# EAGLE library part ARDUINO_MEGA_SHIELD (library Arduino_Shields)
Arduino Mega Shield.
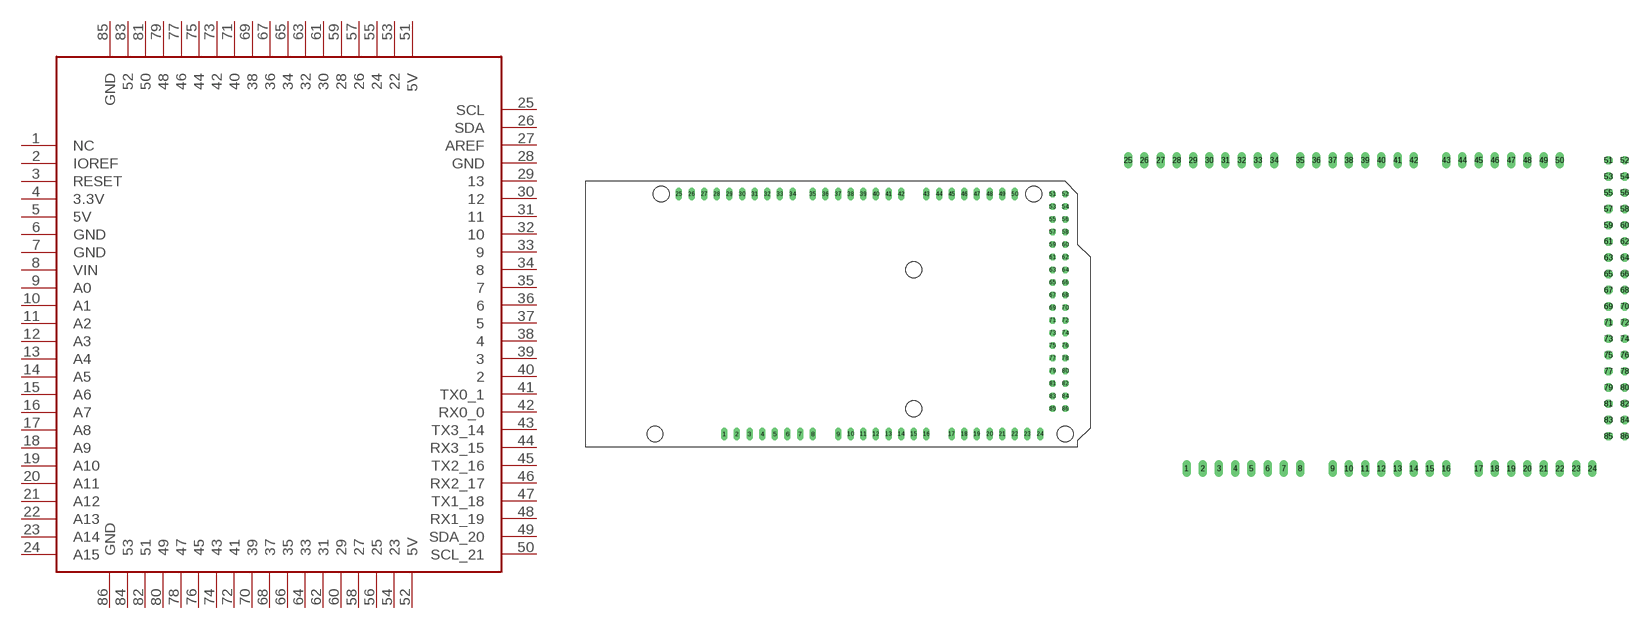
[diagram p2: symbol with the pads of MEGA_FULL; footprints MEGA_FULL, MEGA_PADS_ONLY]

Designator prefix -

## ARDUINO_MEGA_SHIELD_FULL  [MEGA_FULL]
1  NC  nc
2  IOREF
3  RESET
4  3.3V
5  5V
6  GND
7  GND
8  VIN
9  A0
10  A1
11  A2
12  A3
13  A4
14  A5
15  A6
16  A7
17  A8
18  A9
19  A10
20  A11
21  A12
22  A13
23  A14
24  A15
25  SCL
26  SDA
27  AREF
28  GND
29  13
30  12
31  11
32  10
33  9
34  8
35  7
36  6
37  5
38  4
39  3
40  2
41  TX0_1
42  RX0_0
43  TX3_14
44  RX3_15
45  TX2_16
46  RX2_17
47  TX1_18
48  RX1_19
49  SDA_20
50  SCL_21
51  5V
52  5V
53  22
54  23
55  24
56  25
57  26
58  27
59  28
60  29
61  30
62  31
63  32
64  33
65  34
66  35
67  36
68  37
69  38
70  39
71  40
72  41
73  42
74  43
75  44
76  45
77  46
78  47
79  48
80  49
81  50
82  51
83  52
84  53
85  GND
86  GND

## ARDUINO_MEGA_SHIELD_PADS_ONLY  [MEGA_PADS_ONLY]
Pads as for MEGA_FULL

## ARDUINO_MEGA_SHIELD_PADS_HOLES  [MEGA_PADS_HOLES]
Pads as for MEGA_FULL

## Footprint MEGA_FULL (pad centres in mm)
drill 0.8 long: 1 27.94,2.54; 2 30.48,2.54; 3 33.02,2.54; 4 35.56,2.54; 5 38.1,2.54; 6 40.64,2.54; 7 43.18,2.54; 8 45.72,2.54; 9 50.8,2.54; 10 53.34,2.54; 11 55.88,2.54; 12 58.42,2.54; 13 60.96,2.54; 14 63.5,2.54; 15 66.04,2.54; 16 68.58,2.54; 17 73.66,2.54; 18 76.2,2.54; 19 78.74,2.54; 20 81.28,2.54; 21 83.82,2.54; 22 86.36,2.54; 23 88.9,2.54; 24 91.44,2.54; 25 18.796,50.8; 26 21.336,50.8; 27 23.876,50.8; 28 26.416,50.8; 29 28.956,50.8; 30 31.496,50.8; 31 34.036,50.8; 32 36.576,50.8; 33 39.116,50.8; 34 41.656,50.8; 35 45.72,50.8; 36 48.26,50.8; 37 50.8,50.8; 38 53.34,50.8; 39 55.88,50.8; 40 58.42,50.8; 41 60.96,50.8; 42 63.5,50.8; 43 68.58,50.8; 44 71.12,50.8; 45 73.66,50.8; 46 76.2,50.8; 47 78.74,50.8; 48 81.28,50.8; 49 83.82,50.8; 50 86.36,50.8
drill 0.8 octagon: 51 93.98,50.8; 52 96.52,50.8; 53 93.98,48.26; 54 96.52,48.26; 55 93.98,45.72; 56 96.52,45.72; 57 93.98,43.18; 58 96.52,43.18; 59 93.98,40.64; 60 96.52,40.64; 61 93.98,38.1; 62 96.52,38.1; 63 93.98,35.56; 64 96.52,35.56; 65 93.98,33.02; 66 96.52,33.02; 67 93.98,30.48; 68 96.52,30.48; 69 93.98,27.94; 70 96.52,27.94; 71 93.98,25.4; 72 96.52,25.4; 73 93.98,22.86; 74 96.52,22.86; 75 93.98,20.32; 76 96.52,20.32; 77 93.98,17.78; 78 96.52,17.78; 79 93.98,15.24; 80 96.52,15.24; 81 93.98,12.7; 82 96.52,12.7; 83 93.98,10.16; 84 96.52,10.16; 85 93.98,7.62; 86 96.52,7.62
hole 3.175 at 13.97,2.54
hole 3.175 at 66.04,7.62
hole 3.175 at 96.52,2.54
hole 3.175 at 15.24,50.8
hole 3.175 at 66.04,35.56
hole 3.175 at 90.17,50.8

## Footprint MEGA_PADS_ONLY (pad centres in mm)
drill 0.8 long: 1 27.94,2.54; 2 30.48,2.54; 3 33.02,2.54; 4 35.56,2.54; 5 38.1,2.54; 6 40.64,2.54; 7 43.18,2.54; 8 45.72,2.54; 9 50.8,2.54; 10 53.34,2.54; 11 55.88,2.54; 12 58.42,2.54; 13 60.96,2.54; 14 63.5,2.54; 15 66.04,2.54; 16 68.58,2.54; 17 73.66,2.54; 18 76.2,2.54; 19 78.74,2.54; 20 81.28,2.54; 21 83.82,2.54; 22 86.36,2.54; 23 88.9,2.54; 24 91.44,2.54; 25 18.796,50.8; 26 21.336,50.8; 27 23.876,50.8; 28 26.416,50.8; 29 28.956,50.8; 30 31.496,50.8; 31 34.036,50.8; 32 36.576,50.8; 33 39.116,50.8; 34 41.656,50.8; 35 45.72,50.8; 36 48.26,50.8; 37 50.8,50.8; 38 53.34,50.8; 39 55.88,50.8; 40 58.42,50.8; 41 60.96,50.8; 42 63.5,50.8; 43 68.58,50.8; 44 71.12,50.8; 45 73.66,50.8; 46 76.2,50.8; 47 78.74,50.8; 48 81.28,50.8; 49 83.82,50.8; 50 86.36,50.8
drill 0.8 octagon: 51 93.98,50.8; 52 96.52,50.8; 53 93.98,48.26; 54 96.52,48.26; 55 93.98,45.72; 56 96.52,45.72; 57 93.98,43.18; 58 96.52,43.18; 59 93.98,40.64; 60 96.52,40.64; 61 93.98,38.1; 62 96.52,38.1; 63 93.98,35.56; 64 96.52,35.56; 65 93.98,33.02; 66 96.52,33.02; 67 93.98,30.48; 68 96.52,30.48; 69 93.98,27.94; 70 96.52,27.94; 71 93.98,25.4; 72 96.52,25.4; 73 93.98,22.86; 74 96.52,22.86; 75 93.98,20.32; 76 96.52,20.32; 77 93.98,17.78; 78 96.52,17.78; 79 93.98,15.24; 80 96.52,15.24; 81 93.98,12.7; 82 96.52,12.7; 83 93.98,10.16; 84 96.52,10.16; 85 93.98,7.62; 86 96.52,7.62

## Footprint MEGA_PADS_HOLES (pad centres in mm)
drill 0.8 long: 1 27.94,2.54; 2 30.48,2.54; 3 33.02,2.54; 4 35.56,2.54; 5 38.1,2.54; 6 40.64,2.54; 7 43.18,2.54; 8 45.72,2.54; 9 50.8,2.54; 10 53.34,2.54; 11 55.88,2.54; 12 58.42,2.54; 13 60.96,2.54; 14 63.5,2.54; 15 66.04,2.54; 16 68.58,2.54; 17 73.66,2.54; 18 76.2,2.54; 19 78.74,2.54; 20 81.28,2.54; 21 83.82,2.54; 22 86.36,2.54; 23 88.9,2.54; 24 91.44,2.54; 25 18.796,50.8; 26 21.336,50.8; 27 23.876,50.8; 28 26.416,50.8; 29 28.956,50.8; 30 31.496,50.8; 31 34.036,50.8; 32 36.576,50.8; 33 39.116,50.8; 34 41.656,50.8; 35 45.72,50.8; 36 48.26,50.8; 37 50.8,50.8; 38 53.34,50.8; 39 55.88,50.8; 40 58.42,50.8; 41 60.96,50.8; 42 63.5,50.8; 43 68.58,50.8; 44 71.12,50.8; 45 73.66,50.8; 46 76.2,50.8; 47 78.74,50.8; 48 81.28,50.8; 49 83.82,50.8; 50 86.36,50.8
drill 0.8 octagon: 51 93.98,50.8; 52 96.52,50.8; 53 93.98,48.26; 54 96.52,48.26; 55 93.98,45.72; 56 96.52,45.72; 57 93.98,43.18; 58 96.52,43.18; 59 93.98,40.64; 60 96.52,40.64; 61 93.98,38.1; 62 96.52,38.1; 63 93.98,35.56; 64 96.52,35.56; 65 93.98,33.02; 66 96.52,33.02; 67 93.98,30.48; 68 96.52,30.48; 69 93.98,27.94; 70 96.52,27.94; 71 93.98,25.4; 72 96.52,25.4; 73 93.98,22.86; 74 96.52,22.86; 75 93.98,20.32; 76 96.52,20.32; 77 93.98,17.78; 78 96.52,17.78; 79 93.98,15.24; 80 96.52,15.24; 81 93.98,12.7; 82 96.52,12.7; 83 93.98,10.16; 84 96.52,10.16; 85 93.98,7.62; 86 96.52,7.62
hole 3.175 at 13.97,2.54
hole 3.175 at 66.04,7.62
hole 3.175 at 96.52,2.54
hole 3.175 at 15.24,50.8
hole 3.175 at 66.04,35.56
hole 3.175 at 90.17,50.8